# EAGLE library part ADS7830 (library ADC128D818)
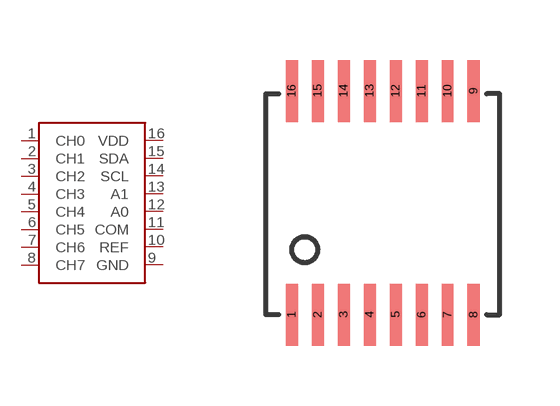
[diagram p1: symbol with the pads of ADC8_SD; footprint ADC8_SD]

Designator prefix -

## ADS7830  [ADC8_SD]
1  CH0
2  CH1
3  CH2
4  CH3
5  CH4
6  CH5
7  CH6
8  CH7
9  GND
10  REF
11  COM
12  A0
13  A1
14  SCL
15  SDA
16  VDD

## Footprint ADC8_SD (pad centres in mm)
smd 0.3 x 1.55: 1 0,0; 2 0.65,0; 3 1.3,0; 4 1.95,0; 5 2.6,0; 6 3.25,0; 7 3.9,0; 8 4.55,0; 9 4.55,5.6; 10 3.9,5.6; 11 3.25,5.6; 12 2.6,5.6; 13 1.95,5.6; 14 1.3,5.6; 15 0.65,5.6; 16 0,5.6